# Altium footprint library XG_DW_POCT_2K10LED_V2.0_2024.11.151.PcbLib: 120 footprints (part 8 of 8)
Each footprint in its own frame and in the unit in brackets; x right, y up, seen from the top. Pads: shape width x height; smd on the part's side, far side on the other; paste and mask are expansions set on the pad; w line width, h text height; cw(c..) or ccw(c..) is an arc to the next point about the centre after c.
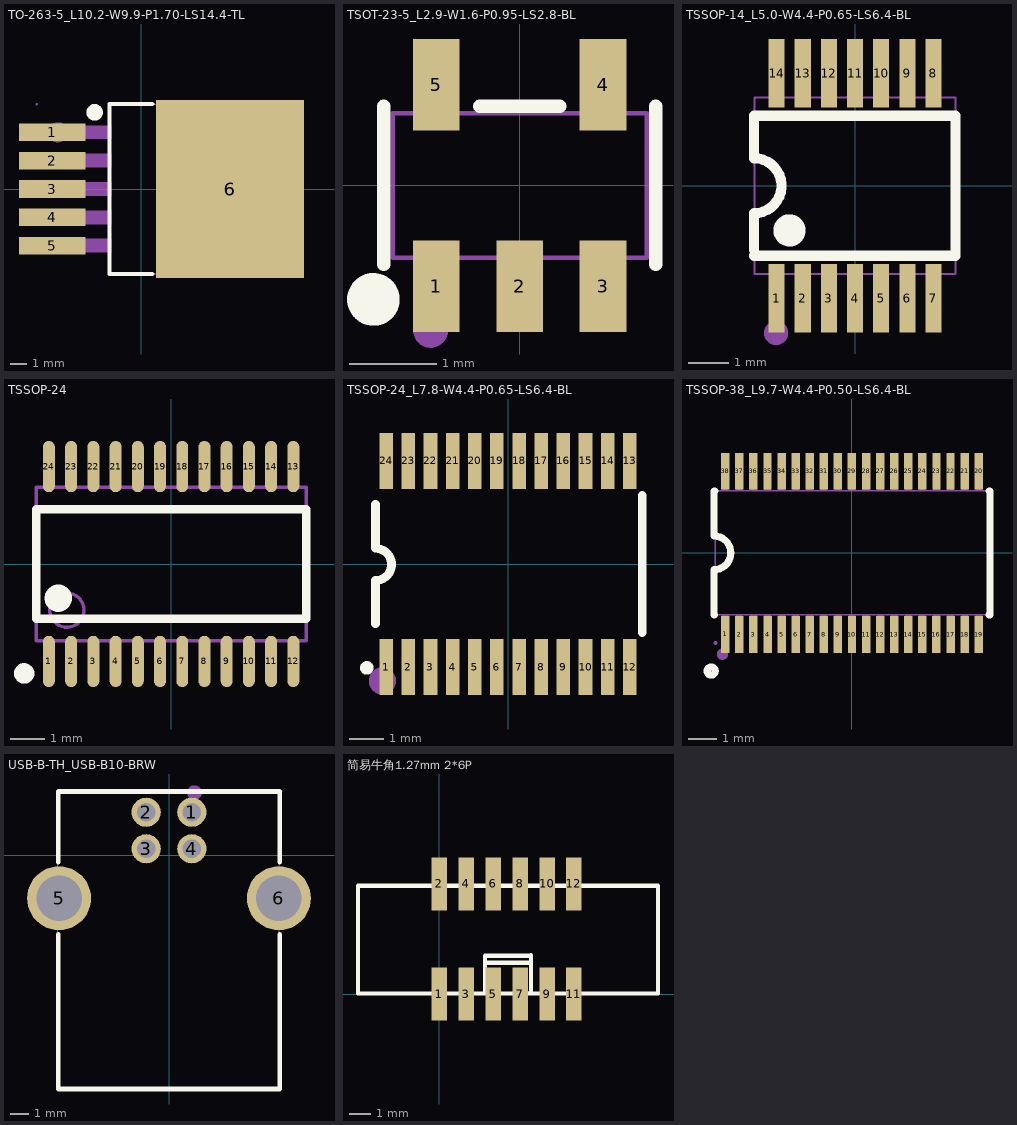
[diagram p7: the footprints below, top view; thin cyan lines are the x and y axes]

## TO-263-5_L10.2-W9.9-P1.70-LS14.4-TL [mil]
pads (6):
  rect 157.48x42.1 smd: 1(-210,133.84) 2(-210,66.92) 3(-210,0) 4(-210,-66.92) 5(-210,-133.84)
  rect 350x419.68 smd: 6(210,0)
Top Overlay:
  circle w19.68: c-110.24,181.1 r9.84
  lines w10: 25.89,-200.79 -74.81,-200.79 -74.81,200.79 23.62,200.79 25.89,200.79
Mechanical 6:
  circle w23.62: c-196.85,133.86 r11.81
Mechanical 15:
  region: -171.85,-118.08 -70.47,-118.08 -70.47,-149.57 -171.85,-149.57
  region: -171.85,-51.24 -70.47,-51.24 -70.47,-82.73 -171.85,-82.73
  region: -171.85,15.76 -70.47,15.76 -70.47,-15.73 -171.85,-15.73
  region: -171.85,82.76 -70.47,82.76 -70.47,51.27 -171.85,51.27
  region: -171.85,149.76 -70.47,149.76 -70.47,118.27 -171.85,118.27
  region: 68.27,-200 68.27,200 318.27,200 318.27,-200
  region: -246.81,-118.09 -168.86,-118.09 -168.86,-149.59 -246.81,-149.59
  region: -246.81,-51.25 -168.86,-51.25 -168.86,-82.75 -246.81,-82.75
  region: -246.81,82.67 -168.86,82.67 -168.86,51.17 -246.81,51.17
  region: -246.81,15.75 -168.86,15.75 -168.86,-15.75 -246.81,-15.75
  region: -246.81,149.67 -168.86,149.67 -168.86,118.17 -246.81,118.17
  region: -244.45,200 -244.48,200.95 -245.86,202.28 -247.76,202.28 -249.14,200.95 -249.17,200 -249.14,199.04 -247.76,197.72 -245.85,197.72 -244.48,199.05 -244.45,200
  lines w2: -71.89,-200 268.27,-200 268.27,200 -71.89,200 -71.89,-200

## TSOT-23-5_L2.9-W1.6-P0.95-LS2.8-BL [mm]
pads (5):
  rect 0.532x1.045 smd: 1(-0.95,-1.148) 2(0,-1.148) 3(0.95,-1.148) 4(0.95,1.148) 5(-0.95,1.148)
Top Overlay:
  circle w0.3: c-1.668,-1.3 r0.15
  lines w0.152: -1.551,-0.901 -1.551,0.901 ; -0.455,0.901 0.455,0.901 ; 1.551,-0.901 1.551,0.901
Mechanical 6:
  circle w0.2: c-1.016,-1.651 r0.1
Mechanical 15:
  region: -1.39,-1.4 -1.391,-1.376 -1.426,-1.341 -1.475,-1.341 -1.51,-1.376 -1.51,-1.4 -1.51,-1.425 -1.475,-1.459 -1.426,-1.459 -1.391,-1.425 -1.39,-1.4
  region: -1.163,-0.95 -0.737,-0.95 -0.737,-1.4 -1.163,-1.4
  region: -1.163,-0.815 -0.737,-0.815 -0.737,-0.96 -1.163,-0.96
  region: -0.212,-0.95 0.212,-0.95 0.212,-1.4 -0.212,-1.4
  region: -0.212,-0.815 0.212,-0.815 0.212,-0.96 -0.212,-0.96
  region: 0.737,-0.95 1.163,-0.95 1.163,-1.4 0.737,-1.4
  region: 0.737,-0.815 1.163,-0.815 1.163,-0.96 0.737,-0.96
  region: 0.737,0.95 1.163,0.95 1.163,1.4 0.737,1.4
  region: 0.737,0.96 1.163,0.96 1.163,0.815 0.737,0.815
  region: -1.163,0.95 -0.737,0.95 -0.737,1.4 -1.163,1.4
  region: -1.163,0.96 -0.737,0.96 -0.737,0.815 -1.163,0.815
  lines w0.051: -1.45,-0.825 1.45,-0.825 1.45,0.825 -1.45,0.825 -1.45,-0.825

## TSSOP-14_L5.0-W4.4-P0.65-LS6.4-BL [mm]
pads (14):
  rect 0.4x1.7 smd: 1(-1.95,-2.8) 2(-1.3,-2.8) 3(-0.65,-2.8) 4(0,-2.8) 5(0.65,-2.8) 6(1.3,-2.8) 7(1.95,-2.8) 8(1.95,2.8) 9(1.3,2.8) 10(0.65,2.8) 11(0,2.8) 12(-0.65,2.8) 13(-1.3,2.8) 14(-1.95,2.8)
Top Overlay:
  circle w0.4: c-1.63,-1.11 r0.2
  lines w0.254: -2.515,-1.74 2.5,-1.74 2.5,1.743 -2.515,1.743 -2.515,0.686 cw(c-2.515,0) -2.515,-0.686 -2.515,-1.6
Mechanical 6:
  circle w0.3: c-1.964,-3.662 r0.15
Mechanical 15:
  drawing of 33 lines, arcs and shapes, not listed

## TSSOP-24 [mm]
pads (24):
  oval 0.35x1.5 smd: 1(-3.575,-2.85) 2(-2.925,-2.85) 3(-2.275,-2.85) 4(-1.625,-2.85) 5(-0.975,-2.85) 6(-0.325,-2.85) 7(0.325,-2.85) 8(0.975,-2.85) 9(1.625,-2.85) 10(2.275,-2.85) 11(2.925,-2.85) 12(3.575,-2.85) 13(3.575,2.85) 14(2.925,2.85) 15(2.275,2.85) 16(1.625,2.85) 17(0.975,2.85) 18(0.325,2.85) 19(-0.325,2.85) 20(-0.975,2.85) 21(-1.625,2.85) 22(-2.275,2.85) 23(-2.925,2.85) 24(-3.575,2.85)
Top Overlay:
  circle w0.3: c-4.3,-3.2 r0.15
  circle w0.4: c-3.3,-1 r0.2
  lines w0.254: -3.95,-1.6 -3.95,1.6 3.95,1.6 3.95,-1.6 -3.95,-1.6
Mechanical 13:
  circle w0.1: c-3.05,-1.35 r0.5
  lines w0.1: -3.95,-2.25 -3.95,2.25 3.95,2.25 3.95,-2.25 -3.95,-2.25

## TSSOP-24_L7.8-W4.4-P0.65-LS6.4-BL [mm]
pads (24):
  rect 0.4x1.65 smd: 1(-3.575,-3.023) 2(-2.925,-3.023) 3(-2.275,-3.023) 4(-1.625,-3.023) 5(-0.975,-3.023) 6(-0.325,-3.023) 7(0.325,-3.023) 8(0.975,-3.023) 9(1.625,-3.023) 10(2.275,-3.023) 11(2.925,-3.023) 12(3.575,-3.023) 13(3.575,3.023) 14(2.925,3.023) 15(2.275,3.023) 16(1.625,3.023) 17(0.975,3.023) 18(0.325,3.023) 19(-0.325,3.023) 20(-0.975,3.023) 21(-1.625,3.023) 22(-2.275,3.023) 23(-2.925,3.023) 24(-3.575,3.023)
Top Overlay:
  circle w0.2: c-4.14,-3.048 r0.1
  lines w0.254: -3.886,-1.753 -3.886,-0.483 ccw(c-3.886,-0.013) -3.886,0.457 ; -3.886,0.483 -3.886,1.753 ; 3.937,-2.007 3.937,2.007
Mechanical 15:
  circle w0.4: c-3.683,-3.429 r0.2

## TSSOP-38_L9.7-W4.4-P0.50-LS6.4-BL [mm]
pads (38):
  rect 0.3x1.3 smd: 1(-4.501,-2.899) 2(-3.999,-2.901) 3(-3.498,-2.901) 4(-2.999,-2.901) 5(-2.499,-2.901) 6(-1.999,-2.901) 7(-1.499,-2.901) 8(-0.999,-2.901) 9(-0.499,-2.901) 10(0.001,-2.901) 11(0.501,-2.901) 12(1.001,-2.901) 13(1.501,-2.901) 14(2.001,-2.901) 15(2.501,-2.901) 16(3.001,-2.901) 17(3.501,-2.901) 18(4.001,-2.901) 19(4.501,-2.901) 20(4.5,2.899) 21(4.001,2.9) 22(3.501,2.899) 23(3.002,2.899) 24(2.499,2.901) 25(2,2.9) 26(1.5,2.9) 27(1,2.9) 28(0.5,2.9) 29(0,2.9) 30(-0.5,2.9) 31(-1,2.9) 32(-1.5,2.9) 33(-2,2.9) 34(-2.5,2.9) 35(-3,2.9) 36(-3.5,2.9) 37(-4,2.9) 38(-4.5,2.9)
Top Overlay:
  circle w0.254: c-5,-4.2 r0.143
  lines w0.254: -4.877,-2.2 -4.9,-2.2 -4.9,-0.6 ccw(c-4.904,0) -4.9,0.6 -4.9,2.2 -4.876,2.2 ; 4.877,-2.2 4.9,-2.2 4.9,2.2 4.876,2.2
Mechanical 6:
  circle w0.2: c-4.6,-3.6 r0.1
Mechanical 15:
  drawing of 81 lines, arcs and shapes, not listed

## USB-B-TH_USB-B10-BRW [mm]
pads (6):
  round 1.6 hole 1: 1(1.25,2.355) 2(-1.25,2.355) 3(-1.25,0.355) 4(1.25,0.355)
  round 3.5 hole 2.5: 5(-6.02,-2.355) 6(6.02,-2.355)
Top Overlay:
  lines w0.254: -6.075,-4.335 -6.075,-12.805 6.075,-12.805 6.075,-4.335 ; -6.075,-0.375 -6.075,3.495 6.075,3.495 6.075,-0.375
Mechanical 6:
  circle w0.4: c1.397,3.429 r0.2
Mechanical 15:
  region: 5.895,-1.455 6.145,-1.455 6.145,-3.255 5.895,-3.255
  region: -6.145,-1.455 -5.895,-1.455 -5.895,-3.255 -6.145,-3.255
  region: -1.5,0.255 -1.5,0.455 -1,0.455 -1,0.255
  region: 1,0.255 1,0.455 1.5,0.455 1.5,0.255
  region: 1,2.255 1,2.455 1.5,2.455 1.5,2.255
  region: -1.5,2.255 -1.5,2.455 -1,2.455 -1,2.255
  region: 6.205,3.512 6.205,3.487 6.17,3.452 6.12,3.452 6.085,3.487 6.085,3.512 6.085,3.537 6.12,3.572 6.17,3.572 6.205,3.537 6.205,3.512
  lines w0.051: -6.1,-12.805 6.05,-12.788 6.05,3.495 -6.1,3.495 -6.1,-12.805

## 简易牛角1.27mm 2*6P [mm]
height 7.7
pads (12):
  rect 0.73x2.5 smd: 1(0,0) 2(0,5.194) 3(1.27,0) 4(1.27,5.194) 5(2.54,0) 6(2.54,5.194) 7(3.81,0) 8(3.81,5.194) 9(5.08,0) 10(5.08,5.194) 11(6.35,0) 12(6.35,5.194)
Top Overlay:
  lines w0.2: 2.159,0.102 2.159,1.803 ; 4.267,1.473 2.159,1.473 2.159,1.803 ; 4.293,0.076 4.318,0.102 4.318,1.829 4.293,1.803 2.159,1.803 ; -3.835,0.025 10.312,0.025 10.312,5.105 -3.835,5.105 -3.835,0.025
3D body: height 4.9, standoff 0, extent -3.734,0.127 10.211,5.004